# Altium integrated library TI Power Management Switching Regulator Charge Pump (Inductorless).IntLib: 239 symbols (part 9 of 14)
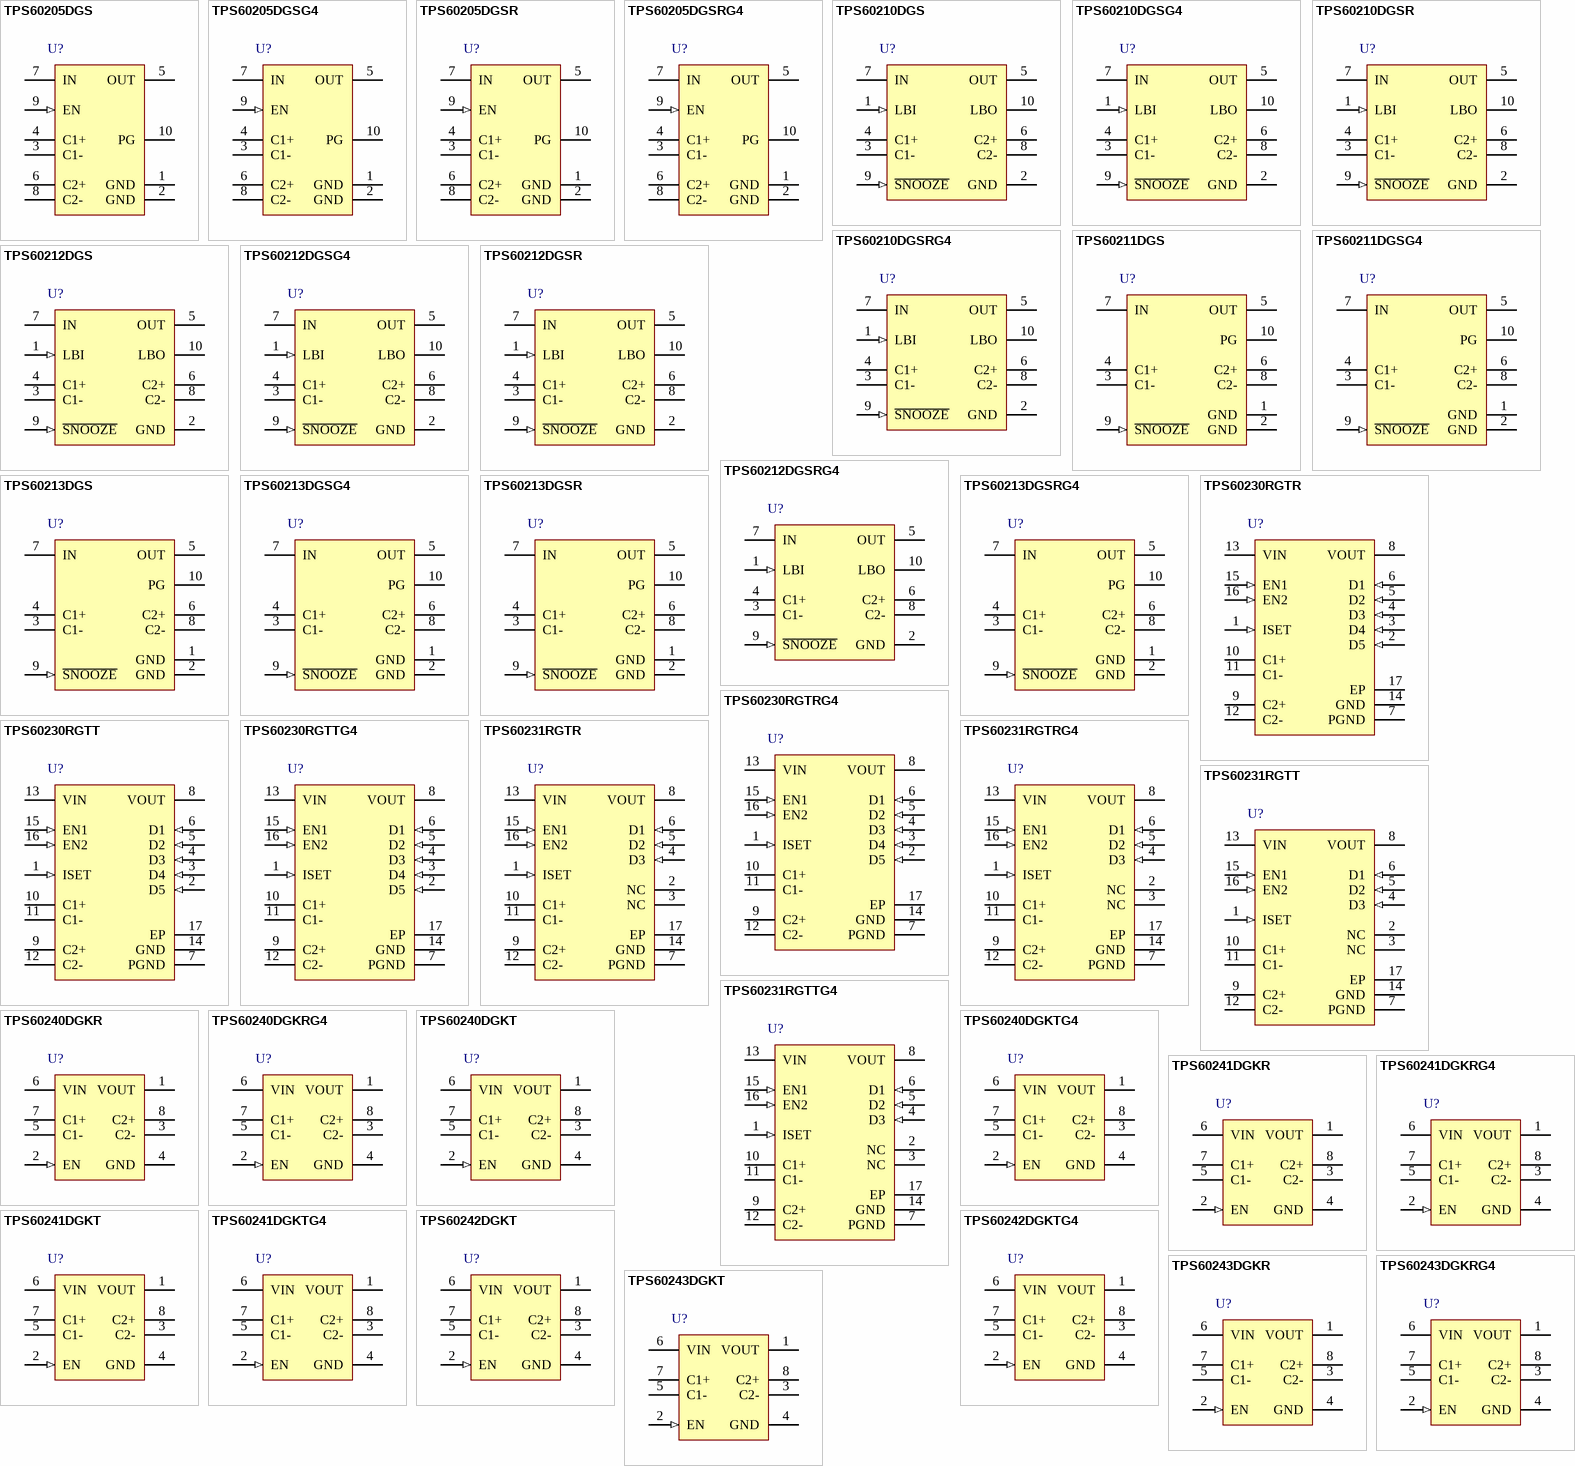
[diagram p15: symbols TPS60205DGS to TPS60243DGKT]

## TPS60205DGSG4
designator U?
3.3 V, Boost Charge Pump, 100 mA, 1.6 to 3.6 V Input with 2-Cell Alkaline / Nixx Input, -40 to 85 degC, 10-pin SOP (DGS10), Green (RoHS & no Sb/Br); Manufacturer: Texas Instruments; PartNumber: TPS60205DGSG4; 2-Cell Alkaline/Nixx Input: TRUE; Efficiency(Typ)(%): 90; Iout(Max)(A): 0.1; Iq(Typ)(mA): 0.035; Preset Vout(V): 3.3; Switching Frequency(Max)(kHz): 400; Vin(Max)(V): 3.6; Vin(Min)(V): 1.6; Vout(Max)(V): 3.43; Vout(Min)(V): 3.17; DatasheetVersion: SLVS354A; PackageVersion: 4073225-6/I; PackageReference: DGS10; PackageDescription: 10-Pin Plastic Small Outline, Body 3.00 x 3.00 mm, Pitch 0.50 mm; Supplier 1: Digi-Key; Supplier Part Number 1: TPS60205DGSG4-ND; Supplier 2: Mouser; Supplier Part Number 2: 595-TPS60205DGSG4; Eco-Plan: Green (RoHS & no Sb/Br); Topology: Boost; Mounting Technology: Surface Mount; Code_JEDEC: MO-153; ComponentLink1Description: Manufacturer URL; ComponentLink1URL: http://www.ti.com/; ComponentLink2Description: Datasheet; ComponentLink2URL: http://www.ti.com/general/docs/lit/getliterature.tsp?genericPartNumber=TPS60205&fileType=pdf; ComponentLink3Description: Package Specification; ComponentLink3URL: http://www.ti.com/litv/pdf/mpds373
footprint TI-DGS10_N (SOP, 10-Leads, Body 3x3mm, Pitch 0.5mm, IPC Medium Density)
footprint TI-DGS10_L (SOP, 10-Leads, Body 3x3mm, Pitch 0.5mm, IPC High Density)
footprint TI-DGS10_M (SOP, 10-Leads, Body 3x3mm, Pitch 0.5mm, IPC Low Density)
pins: 1 GND (power) "This pin has to be connected to ground (GND pin).", 2 GND (power) "Ground.", 3 C1- "Negative terminal of the flying capacitor C1", 4 C1+ "Positive terminal of the flying capacitor C1", 5 OUT (power) "Regulated 3.3-V power output. Bypass OUT to GND with the output filter capacitor Co.", 6 C2+ "Positive terminal of the flying capacitor C2", 7 IN (power) "Supply input. Bypass IN to GND with a capacitor of the same size as Co.", 8 C2- "Negative terminal of the flying capacitor C2", 9 EN (in) "Device-enable input. Three operating modes can be programmed with the EN pin.", 10 PG (hiz) "Open-drain power-good detector output for the TPS60205. As soon as the voltage on OUT reaches about 90% of it is nominal value this pin goes active high. A pullup resistor should be connected between PG and OUT or any other (See Datasheet)"

## TPS60205DGSR
designator U?
3.3 V, Boost Charge Pump, 100 mA, 1.6 to 3.6 V Input with 2-Cell Alkaline / Nixx Input, -40 to 85 degC, 10-pin SOP (DGS10), Green (RoHS & no Sb/Br); Manufacturer: Texas Instruments; PartNumber: TPS60205DGSR; 2-Cell Alkaline/Nixx Input: TRUE; Efficiency(Typ)(%): 90; Iout(Max)(A): 0.1; Iq(Typ)(mA): 0.035; Preset Vout(V): 3.3; Switching Frequency(Max)(kHz): 400; Vin(Max)(V): 3.6; Vin(Min)(V): 1.6; Vout(Max)(V): 3.43; Vout(Min)(V): 3.17; DatasheetVersion: SLVS354A; PackageVersion: 4073225-6/I; PackageReference: DGS10; PackageDescription: 10-Pin Plastic Small Outline, Body 3.00 x 3.00 mm, Pitch 0.50 mm; Supplier 1: Digi-Key; Supplier Part Number 1: 296-12366-2-ND; Supplier 2: Digi-Key; Supplier Part Number 2: 296-12366-1-ND; Supplier 3: Digi-Key; Supplier Part Number 3: 296-12366-6-ND; Supplier 4: Mouser; Supplier Part Number 4: 595-TPS60205DGSR; Eco-Plan: Green (RoHS & no Sb/Br); Topology: Boost; Mounting Technology: Surface Mount; Code_JEDEC: MO-153; ComponentLink1Description: Manufacturer URL; ComponentLink1URL: http://www.ti.com/; ComponentLink2Description: Datasheet; ComponentLink2URL: http://www.ti.com/general/docs/lit/getliterature.tsp?genericPartNumber=TPS60205&fileType=pdf; ComponentLink3Description: Package Specification; ComponentLink3URL: http://www.ti.com/litv/pdf/mpds373
footprint TI-DGS10_N (SOP, 10-Leads, Body 3x3mm, Pitch 0.5mm, IPC Medium Density)
footprint TI-DGS10_L (SOP, 10-Leads, Body 3x3mm, Pitch 0.5mm, IPC High Density)
footprint TI-DGS10_M (SOP, 10-Leads, Body 3x3mm, Pitch 0.5mm, IPC Low Density)
pins: 1 GND (power) "This pin has to be connected to ground (GND pin).", 2 GND (power) "Ground.", 3 C1- "Negative terminal of the flying capacitor C1", 4 C1+ "Positive terminal of the flying capacitor C1", 5 OUT (power) "Regulated 3.3-V power output. Bypass OUT to GND with the output filter capacitor Co.", 6 C2+ "Positive terminal of the flying capacitor C2", 7 IN (power) "Supply input. Bypass IN to GND with a capacitor of the same size as Co.", 8 C2- "Negative terminal of the flying capacitor C2", 9 EN (in) "Device-enable input. Three operating modes can be programmed with the EN pin.", 10 PG (hiz) "Open-drain power-good detector output for the TPS60205. As soon as the voltage on OUT reaches about 90% of it is nominal value this pin goes active high. A pullup resistor should be connected between PG and OUT or any other (See Datasheet)"

## TPS60205DGSRG4
designator U?
3.3 V, Boost Charge Pump, 100 mA, 1.6 to 3.6 V Input with 2-Cell Alkaline / Nixx Input, -40 to 85 degC, 10-pin SOP (DGS10), Green (RoHS & no Sb/Br); Manufacturer: Texas Instruments; PartNumber: TPS60205DGSRG4; 2-Cell Alkaline/Nixx Input: TRUE; Efficiency(Typ)(%): 90; Iout(Max)(A): 0.1; Iq(Typ)(mA): 0.035; Preset Vout(V): 3.3; Switching Frequency(Max)(kHz): 400; Vin(Max)(V): 3.6; Vin(Min)(V): 1.6; Vout(Max)(V): 3.43; Vout(Min)(V): 3.17; DatasheetVersion: SLVS354A; PackageVersion: 4073225-6/I; PackageReference: DGS10; PackageDescription: 10-Pin Plastic Small Outline, Body 3.00 x 3.00 mm, Pitch 0.50 mm; Supplier 1: Digi-Key; Supplier Part Number 1: TPS60205DGSRG4-ND; Supplier 2: Mouser; Supplier Part Number 2: 595-TPS60205DGSRG4; Eco-Plan: Green (RoHS & no Sb/Br); Topology: Boost; Mounting Technology: Surface Mount; Code_JEDEC: MO-153; ComponentLink1Description: Manufacturer URL; ComponentLink1URL: http://www.ti.com/; ComponentLink2Description: Datasheet; ComponentLink2URL: http://www.ti.com/general/docs/lit/getliterature.tsp?genericPartNumber=TPS60205&fileType=pdf; ComponentLink3Description: Package Specification; ComponentLink3URL: http://www.ti.com/litv/pdf/mpds373
footprint TI-DGS10_N (SOP, 10-Leads, Body 3x3mm, Pitch 0.5mm, IPC Medium Density)
footprint TI-DGS10_L (SOP, 10-Leads, Body 3x3mm, Pitch 0.5mm, IPC High Density)
footprint TI-DGS10_M (SOP, 10-Leads, Body 3x3mm, Pitch 0.5mm, IPC Low Density)
pins: 1 GND (power) "This pin has to be connected to ground (GND pin).", 2 GND (power) "Ground.", 3 C1- "Negative terminal of the flying capacitor C1", 4 C1+ "Positive terminal of the flying capacitor C1", 5 OUT (power) "Regulated 3.3-V power output. Bypass OUT to GND with the output filter capacitor Co.", 6 C2+ "Positive terminal of the flying capacitor C2", 7 IN (power) "Supply input. Bypass IN to GND with a capacitor of the same size as Co.", 8 C2- "Negative terminal of the flying capacitor C2", 9 EN (in) "Device-enable input. Three operating modes can be programmed with the EN pin.", 10 PG (hiz) "Open-drain power-good detector output for the TPS60205. As soon as the voltage on OUT reaches about 90% of it is nominal value this pin goes active high. A pullup resistor should be connected between PG and OUT or any other (See Datasheet)"

## TPS60210DGS
designator U?
3.3 V, Step-Up Charge Pump Regulator, 100 mA, 1.6 to 3.6 V Input with 2-Cell Alkaline / Nixx Input, -40 to 85 degC, 10-pin SOP (DGS10), Green (RoHS & no Sb/Br); Manufacturer: Texas Instruments; PartNumber: TPS60210DGS; 2-Cell Alkaline/Nixx Input: TRUE; Iout(Max)(A): 0.1; Iq(Typ)(mA): 0.035; Preset Vout(V): 3.3; Switching Frequency(Max)(kHz): 400; Topology: Boost; Vin(Max)(V): 3.6; Vin(Min)(V): 1.8; Vout(Max)(V): 3.47; Vout(Min)(V): 3.17; DatasheetVersion: SLVS296; PackageVersion: 4073225-6/I; PackageReference: DGS10; PackageDescription: 10-Pin Plastic Small Outline, Body 3.00 x 3.00 mm, Pitch 0.50 mm; Supplier 1: Digi-Key; Supplier Part Number 1: 296-10959-5-ND; Supplier 2: Farnell; Supplier Part Number 2: 8457670; Supplier 3: Newark; Supplier Part Number 3: 77C0590; Supplier 4: Mouser; Supplier Part Number 4: 595-TPS60210DGS; Eco-Plan: Green (RoHS & no Sb/Br); Mounting Technology: Surface Mount; Code_JEDEC: MO-153; ComponentLink1Description: Manufacturer URL; ComponentLink1URL: http://www.ti.com/; ComponentLink2Description: Datasheet; ComponentLink2URL: http://www.ti.com/general/docs/lit/getliterature.tsp?genericPartNumber=TPS60210&fileType=pdf; ComponentLink3Description: Package Specification; ComponentLink3URL: http://www.ti.com/litv/pdf/mpds373
footprint TI-DGS10_N (SOP, 10-Leads, Body 3x3mm, Pitch 0.5mm, IPC Medium Density)
footprint TI-DGS10_L (SOP, 10-Leads, Body 3x3mm, Pitch 0.5mm, IPC High Density)
footprint TI-DGS10_M (SOP, 10-Leads, Body 3x3mm, Pitch 0.5mm, IPC Low Density)
pins: 1 LBI (in) "Low-battery detector input for TPS60210 and TPS60212. A low-battery warning is generated at the LBO pin when the voltage on LBI drops below the threshold of 1.18 V. Connect LBI to GND or VBAT if the low-battery detector (See Datasheet)", 2 GND (power) "Ground", 3 C1- "Negative terminal of the flying capacitor C1", 4 C1+ "Positive terminal of the flying capacitor C1", 5 OUT (power) "Regulated 3.3-V power output. Bypass OUT to GND with the output filter capacitor Co.", 6 C2+ "Positive terminal of the flying capacitor C2", 7 IN (power) "Supply input. Bypass IN to GND with a capacitor of a minimum of 2.2 µF.", 8 C2- "Negative terminal of the flying capacitor C2", 9 ~{SNOOZE} (in) "Three operating modes can be programmed with the S\N\O\O\Z\E\ pin. - S\N\O\O\Z\E\ = Low programs the device in the snooze mode, enabling ultralow operating current while still maintaining the output voltage to within 3.3 V (See Datasheet)", 10 LBO (hiz) "Open-drain low-battery detector output for TPS60210 and TPS60212. This pin is pulled low if the voltage on LBI drops below the threshold of 1.18 V. A pullup resistor should be connected between LBO and OUT or any other logic (See Datasheet)"

## TPS60210DGSG4
designator U?
3.3 V, Step-Up Charge Pump Regulator, 100 mA, 1.6 to 3.6 V Input with 2-Cell Alkaline / Nixx Input, -40 to 85 degC, 10-pin SOP (DGS10), Green (RoHS & no Sb/Br); Manufacturer: Texas Instruments; PartNumber: TPS60210DGSG4; 2-Cell Alkaline/Nixx Input: TRUE; Iout(Max)(A): 0.1; Iq(Typ)(mA): 0.035; Preset Vout(V): 3.3; Switching Frequency(Max)(kHz): 400; Topology: Boost; Vin(Max)(V): 3.6; Vin(Min)(V): 1.8; Vout(Max)(V): 3.47; Vout(Min)(V): 3.17; DatasheetVersion: SLVS296; PackageVersion: 4073225-6/I; PackageReference: DGS10; PackageDescription: 10-Pin Plastic Small Outline, Body 3.00 x 3.00 mm, Pitch 0.50 mm; Supplier 1: Digi-Key; Supplier Part Number 1: TPS60210DGSG4-ND; Supplier 2: Newark; Supplier Part Number 2: 04M0260; Supplier 3: Mouser; Supplier Part Number 3: 595-TPS60210DGSG4; Eco-Plan: Green (RoHS & no Sb/Br); Mounting Technology: Surface Mount; Code_JEDEC: MO-153; ComponentLink1Description: Manufacturer URL; ComponentLink1URL: http://www.ti.com/; ComponentLink2Description: Datasheet; ComponentLink2URL: http://www.ti.com/general/docs/lit/getliterature.tsp?genericPartNumber=TPS60210&fileType=pdf; ComponentLink3Description: Package Specification; ComponentLink3URL: http://www.ti.com/litv/pdf/mpds373
footprint TI-DGS10_N (SOP, 10-Leads, Body 3x3mm, Pitch 0.5mm, IPC Medium Density)
footprint TI-DGS10_L (SOP, 10-Leads, Body 3x3mm, Pitch 0.5mm, IPC High Density)
footprint TI-DGS10_M (SOP, 10-Leads, Body 3x3mm, Pitch 0.5mm, IPC Low Density)
pins: 1 LBI (in) "Low-battery detector input for TPS60210 and TPS60212. A low-battery warning is generated at the LBO pin when the voltage on LBI drops below the threshold of 1.18 V. Connect LBI to GND or VBAT if the low-battery detector (See Datasheet)", 2 GND (power) "Ground", 3 C1- "Negative terminal of the flying capacitor C1", 4 C1+ "Positive terminal of the flying capacitor C1", 5 OUT (power) "Regulated 3.3-V power output. Bypass OUT to GND with the output filter capacitor Co.", 6 C2+ "Positive terminal of the flying capacitor C2", 7 IN (power) "Supply input. Bypass IN to GND with a capacitor of a minimum of 2.2 µF.", 8 C2- "Negative terminal of the flying capacitor C2", 9 ~{SNOOZE} (in) "Three operating modes can be programmed with the S\N\O\O\Z\E\ pin. - S\N\O\O\Z\E\ = Low programs the device in the snooze mode, enabling ultralow operating current while still maintaining the output voltage to within 3.3 V (See Datasheet)", 10 LBO (hiz) "Open-drain low-battery detector output for TPS60210 and TPS60212. This pin is pulled low if the voltage on LBI drops below the threshold of 1.18 V. A pullup resistor should be connected between LBO and OUT or any other logic (See Datasheet)"

## TPS60210DGSR
designator U?
3.3 V, Step-Up Charge Pump Regulator, 100 mA, 1.6 to 3.6 V Input with 2-Cell Alkaline / Nixx Input, -40 to 85 degC, 10-pin SOP (DGS10), Green (RoHS & no Sb/Br); Manufacturer: Texas Instruments; PartNumber: TPS60210DGSR; 2-Cell Alkaline/Nixx Input: TRUE; Iout(Max)(A): 0.1; Iq(Typ)(mA): 0.035; Preset Vout(V): 3.3; Switching Frequency(Max)(kHz): 400; Topology: Boost; Vin(Max)(V): 3.6; Vin(Min)(V): 1.8; Vout(Max)(V): 3.47; Vout(Min)(V): 3.17; DatasheetVersion: SLVS296; PackageVersion: 4073225-6/I; PackageReference: DGS10; PackageDescription: 10-Pin Plastic Small Outline, Body 3.00 x 3.00 mm, Pitch 0.50 mm; Supplier 1: Digi-Key; Supplier Part Number 1: TPS60210DGSR-ND; Supplier 2: Newark; Supplier Part Number 2: 77C0591; Supplier 3: Mouser; Supplier Part Number 3: 595-TPS60210DGSR; Eco-Plan: Green (RoHS & no Sb/Br); Mounting Technology: Surface Mount; Code_JEDEC: MO-153; ComponentLink1Description: Manufacturer URL; ComponentLink1URL: http://www.ti.com/; ComponentLink2Description: Datasheet; ComponentLink2URL: http://www.ti.com/general/docs/lit/getliterature.tsp?genericPartNumber=TPS60210&fileType=pdf; ComponentLink3Description: Package Specification; ComponentLink3URL: http://www.ti.com/litv/pdf/mpds373
footprint TI-DGS10_N (SOP, 10-Leads, Body 3x3mm, Pitch 0.5mm, IPC Medium Density)
footprint TI-DGS10_L (SOP, 10-Leads, Body 3x3mm, Pitch 0.5mm, IPC High Density)
footprint TI-DGS10_M (SOP, 10-Leads, Body 3x3mm, Pitch 0.5mm, IPC Low Density)
pins: 1 LBI (in) "Low-battery detector input for TPS60210 and TPS60212. A low-battery warning is generated at the LBO pin when the voltage on LBI drops below the threshold of 1.18 V. Connect LBI to GND or VBAT if the low-battery detector (See Datasheet)", 2 GND (power) "Ground", 3 C1- "Negative terminal of the flying capacitor C1", 4 C1+ "Positive terminal of the flying capacitor C1", 5 OUT (power) "Regulated 3.3-V power output. Bypass OUT to GND with the output filter capacitor Co.", 6 C2+ "Positive terminal of the flying capacitor C2", 7 IN (power) "Supply input. Bypass IN to GND with a capacitor of a minimum of 2.2 µF.", 8 C2- "Negative terminal of the flying capacitor C2", 9 ~{SNOOZE} (in) "Three operating modes can be programmed with the S\N\O\O\Z\E\ pin. - S\N\O\O\Z\E\ = Low programs the device in the snooze mode, enabling ultralow operating current while still maintaining the output voltage to within 3.3 V (See Datasheet)", 10 LBO (hiz) "Open-drain low-battery detector output for TPS60210 and TPS60212. This pin is pulled low if the voltage on LBI drops below the threshold of 1.18 V. A pullup resistor should be connected between LBO and OUT or any other logic (See Datasheet)"

## TPS60210DGSRG4
designator U?
3.3 V, Step-Up Charge Pump Regulator, 100 mA, 1.6 to 3.6 V Input with 2-Cell Alkaline / Nixx Input, -40 to 85 degC, 10-pin SOP (DGS10), Green (RoHS & no Sb/Br); Manufacturer: Texas Instruments; PartNumber: TPS60210DGSRG4; 2-Cell Alkaline/Nixx Input: TRUE; Iout(Max)(A): 0.1; Iq(Typ)(mA): 0.035; Preset Vout(V): 3.3; Switching Frequency(Max)(kHz): 400; Topology: Boost; Vin(Max)(V): 3.6; Vin(Min)(V): 1.8; Vout(Max)(V): 3.47; Vout(Min)(V): 3.17; DatasheetVersion: SLVS296; PackageVersion: 4073225-6/I; PackageReference: DGS10; PackageDescription: 10-Pin Plastic Small Outline, Body 3.00 x 3.00 mm, Pitch 0.50 mm; Supplier 1: Digi-Key; Supplier Part Number 1: TPS60210DGSRG4-ND; Supplier 2: Mouser; Supplier Part Number 2: 595-TPS60210DGSRG4; Eco-Plan: Green (RoHS & no Sb/Br); Mounting Technology: Surface Mount; Code_JEDEC: MO-153; ComponentLink1Description: Manufacturer URL; ComponentLink1URL: http://www.ti.com/; ComponentLink2Description: Datasheet; ComponentLink2URL: http://www.ti.com/general/docs/lit/getliterature.tsp?genericPartNumber=TPS60210&fileType=pdf; ComponentLink3Description: Package Specification; ComponentLink3URL: http://www.ti.com/litv/pdf/mpds373
footprint TI-DGS10_N (SOP, 10-Leads, Body 3x3mm, Pitch 0.5mm, IPC Medium Density)
footprint TI-DGS10_L (SOP, 10-Leads, Body 3x3mm, Pitch 0.5mm, IPC High Density)
footprint TI-DGS10_M (SOP, 10-Leads, Body 3x3mm, Pitch 0.5mm, IPC Low Density)
pins: 1 LBI (in) "Low-battery detector input for TPS60210 and TPS60212. A low-battery warning is generated at the LBO pin when the voltage on LBI drops below the threshold of 1.18 V. Connect LBI to GND or VBAT if the low-battery detector (See Datasheet)", 2 GND (power) "Ground", 3 C1- "Negative terminal of the flying capacitor C1", 4 C1+ "Positive terminal of the flying capacitor C1", 5 OUT (power) "Regulated 3.3-V power output. Bypass OUT to GND with the output filter capacitor Co.", 6 C2+ "Positive terminal of the flying capacitor C2", 7 IN (power) "Supply input. Bypass IN to GND with a capacitor of a minimum of 2.2 µF.", 8 C2- "Negative terminal of the flying capacitor C2", 9 ~{SNOOZE} (in) "Three operating modes can be programmed with the S\N\O\O\Z\E\ pin. - S\N\O\O\Z\E\ = Low programs the device in the snooze mode, enabling ultralow operating current while still maintaining the output voltage to within 3.3 V (See Datasheet)", 10 LBO (hiz) "Open-drain low-battery detector output for TPS60210 and TPS60212. This pin is pulled low if the voltage on LBI drops below the threshold of 1.18 V. A pullup resistor should be connected between LBO and OUT or any other logic (See Datasheet)"

## TPS60211DGS
designator U?
3.3 V, Step-Up Charge Pump Regulator, 100 mA, 1.6 to 3.6 V Input with 2-Cell Alkaline / Nixx Input, -40 to 85 degC, 10-pin SOP (DGS10), Green (RoHS & no Sb/Br); Manufacturer: Texas Instruments; PartNumber: TPS60211DGS; 2-Cell Alkaline/Nixx Input: TRUE; Efficiency(Typ)(%): 70; Iout(Max)(A): 0.1; Iq(Typ)(mA): 0.035; Preset Vout(V): 3.3; Switching Frequency(Max)(kHz): 400; Topology: Boost; Vin(Max)(V): 3.6; Vin(Min)(V): 1.8; Vout(Max)(V): 3.47; Vout(Min)(V): 3.17; DatasheetVersion: SLVS296; PackageVersion: 4073225-6/I; PackageReference: DGS10; PackageDescription: 10-Pin Plastic Small Outline, Body 3.00 x 3.00 mm, Pitch 0.50 mm; Supplier 1: Digi-Key; Supplier Part Number 1: 296-10961-5-ND; Supplier 2: Newark; Supplier Part Number 2: 77C0593; Supplier 3: Mouser; Supplier Part Number 3: 595-TPS60211DGS; Eco-Plan: Green (RoHS & no Sb/Br); Mounting Technology: Surface Mount; Code_JEDEC: MO-153; ComponentLink1Description: Manufacturer URL; ComponentLink1URL: http://www.ti.com/; ComponentLink2Description: Datasheet; ComponentLink2URL: http://www.ti.com/general/docs/lit/getliterature.tsp?genericPartNumber=TPS60211&fileType=pdf; ComponentLink3Description: Package Specification; ComponentLink3URL: http://www.ti.com/litv/pdf/mpds373
footprint TI-DGS10_N (SOP, 10-Leads, Body 3x3mm, Pitch 0.5mm, IPC Medium Density)
footprint TI-DGS10_L (SOP, 10-Leads, Body 3x3mm, Pitch 0.5mm, IPC High Density)
footprint TI-DGS10_M (SOP, 10-Leads, Body 3x3mm, Pitch 0.5mm, IPC Low Density)
pins: 1 GND (power) "Ground", 2 GND (power) "Ground", 3 C1- "Negative terminal of the flying capacitor C1", 4 C1+ "Positive terminal of the flying capacitor C1", 5 OUT (power) "Regulated 3.3-V power output. Bypass OUT to GND with the output filter capacitor Co", 6 C2+ "Positive terminal of the flying capacitor C2", 7 IN (power) "Supply input. Bypass IN to GND with a capacitor of a minimum of 2.2 µF", 8 C2- "Negative terminal of the flying capacitor C2", 9 ~{SNOOZE} (in) "Three operating modes can be programmed with the S\N\O\O\Z\E\ pin. - S\N\O\O\Z\E\ = Low programs the device in the snooze mode, enabling ultralow operating current while still maintaining the output voltage to within 3.3 V (See Datasheet)", 10 PG (hiz) "Open-drain power-good detector output for TPS60211 and TPS60213. As soon as the voltage on OUT reaches about 90% of its nominal value, this pin goes active high. A pullup resistor should be connected between PG and OUT or (See Datasheet)"

## TPS60211DGSG4
designator U?
3.3 V, Step-Up Charge Pump Regulator, 100 mA, 1.6 to 3.6 V Input with 2-Cell Alkaline / Nixx Input, -40 to 85 degC, 10-pin SOP (DGS10), Green (RoHS & no Sb/Br); Manufacturer: Texas Instruments; PartNumber: TPS60211DGSG4; 2-Cell Alkaline/Nixx Input: TRUE; Efficiency(Typ)(%): 70; Iout(Max)(A): 0.1; Iq(Typ)(mA): 0.035; Preset Vout(V): 3.3; Switching Frequency(Max)(kHz): 400; Topology: Boost; Vin(Max)(V): 3.6; Vin(Min)(V): 1.8; Vout(Max)(V): 3.47; Vout(Min)(V): 3.17; DatasheetVersion: SLVS296; PackageVersion: 4073225-6/I; PackageReference: DGS10; PackageDescription: 10-Pin Plastic Small Outline, Body 3.00 x 3.00 mm, Pitch 0.50 mm; Supplier 1: Digi-Key; Supplier Part Number 1: TPS60211DGSG4-ND; Supplier 2: Mouser; Supplier Part Number 2: 595-TPS60211DGSG4; Eco-Plan: Green (RoHS & no Sb/Br); Mounting Technology: Surface Mount; Code_JEDEC: MO-153; ComponentLink1Description: Manufacturer URL; ComponentLink1URL: http://www.ti.com/; ComponentLink2Description: Datasheet; ComponentLink2URL: http://www.ti.com/general/docs/lit/getliterature.tsp?genericPartNumber=TPS60211&fileType=pdf; ComponentLink3Description: Package Specification; ComponentLink3URL: http://www.ti.com/litv/pdf/mpds373
footprint TI-DGS10_N (SOP, 10-Leads, Body 3x3mm, Pitch 0.5mm, IPC Medium Density)
footprint TI-DGS10_L (SOP, 10-Leads, Body 3x3mm, Pitch 0.5mm, IPC High Density)
footprint TI-DGS10_M (SOP, 10-Leads, Body 3x3mm, Pitch 0.5mm, IPC Low Density)
pins: 1 GND (power) "Ground", 2 GND (power) "Ground", 3 C1- "Negative terminal of the flying capacitor C1", 4 C1+ "Positive terminal of the flying capacitor C1", 5 OUT (power) "Regulated 3.3-V power output. Bypass OUT to GND with the output filter capacitor Co", 6 C2+ "Positive terminal of the flying capacitor C2", 7 IN (power) "Supply input. Bypass IN to GND with a capacitor of a minimum of 2.2 µF", 8 C2- "Negative terminal of the flying capacitor C2", 9 ~{SNOOZE} (in) "Three operating modes can be programmed with the S\N\O\O\Z\E\ pin. - S\N\O\O\Z\E\ = Low programs the device in the snooze mode, enabling ultralow operating current while still maintaining the output voltage to within 3.3 V (See Datasheet)", 10 PG (hiz) "Open-drain power-good detector output for TPS60211 and TPS60213. As soon as the voltage on OUT reaches about 90% of its nominal value, this pin goes active high. A pullup resistor should be connected between PG and OUT or (See Datasheet)"

## TPS60212DGS
designator U?
3.3 V, Step-Up Charge Pump Regulator, 50 mA, 1.6 to 3.6 V Input with 2-Cell Alkaline / Nixx Input, -40 to 85 degC, 10-pin SOP (DGS10), Green (RoHS & no Sb/Br); Manufacturer: Texas Instruments; PartNumber: TPS60212DGS; 2-Cell Alkaline/Nixx Input: TRUE; Iout(Max)(A): 0.05; Iq(Typ)(mA): 0.035; Preset Vout(V): 3.3; Switching Frequency(Max)(kHz): 400; Topology: Boost; Vin(Max)(V): 3.6; Vin(Min)(V): 1.8; Vout(Max)(V): 3.47; Vout(Min)(V): 3.17; DatasheetVersion: SLVS296; PackageVersion: 4073225-6/I; PackageReference: DGS10; PackageDescription: 10-Pin Plastic Small Outline, Body 3.00 x 3.00 mm, Pitch 0.50 mm; Supplier 1: Digi-Key; Supplier Part Number 1: 296-10962-5-ND; Supplier 2: Newark; Supplier Part Number 2: 77C0595; Supplier 3: Mouser; Supplier Part Number 3: 595-TPS60212DGS; Eco-Plan: Green (RoHS & no Sb/Br); Mounting Technology: Surface Mount; Code_JEDEC: MO-153; ComponentLink1Description: Manufacturer URL; ComponentLink1URL: http://www.ti.com/; ComponentLink2Description: Datasheet; ComponentLink2URL: http://www.ti.com/general/docs/lit/getliterature.tsp?genericPartNumber=TPS60212&fileType=pdf; ComponentLink3Description: Package Specification; ComponentLink3URL: http://www.ti.com/litv/pdf/mpds373
footprint TI-DGS10_N (SOP, 10-Leads, Body 3x3mm, Pitch 0.5mm, IPC Medium Density)
footprint TI-DGS10_L (SOP, 10-Leads, Body 3x3mm, Pitch 0.5mm, IPC High Density)
footprint TI-DGS10_M (SOP, 10-Leads, Body 3x3mm, Pitch 0.5mm, IPC Low Density)
pins: 1 LBI (in) "Low-battery detector input for TPS60210 and TPS60212. A low-battery warning is generated at the LBO pin when the voltage on LBI drops below the threshold of 1.18 V. Connect LBI to GND or VBAT if the low-battery detector (See Datasheet)", 2 GND (power) "Ground", 3 C1- "Negative terminal of the flying capacitor C1", 4 C1+ "Positive terminal of the flying capacitor C1", 5 OUT (power) "Regulated 3.3-V power output. Bypass OUT to GND with the output filter capacitor Co.", 6 C2+ "Positive terminal of the flying capacitor C2", 7 IN (power) "Supply input. Bypass IN to GND with a capacitor of a minimum of 2.2 µF.", 8 C2- "Negative terminal of the flying capacitor C2", 9 ~{SNOOZE} (in) "Three operating modes can be programmed with the S\N\O\O\Z\E\ pin. - S\N\O\O\Z\E\ = Low programs the device in the snooze mode, enabling ultralow operating current while still maintaining the output voltage to within 3.3 V (See Datasheet)", 10 LBO (hiz) "Open-drain low-battery detector output for TPS60210 and TPS60212. This pin is pulled low if the voltage on LBI drops below the threshold of 1.18 V. A pullup resistor should be connected between LBO and OUT or any other logic (See Datasheet)"

## TPS60212DGSG4
designator U?
3.3 V, Step-Up Charge Pump Regulator, 50 mA, 1.6 to 3.6 V Input with 2-Cell Alkaline / Nixx Input, -40 to 85 degC, 10-pin SOP (DGS10), Green (RoHS & no Sb/Br); Manufacturer: Texas Instruments; PartNumber: TPS60212DGSG4; 2-Cell Alkaline/Nixx Input: TRUE; Iout(Max)(A): 0.05; Iq(Typ)(mA): 0.035; Preset Vout(V): 3.3; Switching Frequency(Max)(kHz): 400; Topology: Boost; Vin(Max)(V): 3.6; Vin(Min)(V): 1.8; Vout(Max)(V): 3.47; Vout(Min)(V): 3.17; DatasheetVersion: SLVS296; PackageVersion: 4073225-6/I; PackageReference: DGS10; PackageDescription: 10-Pin Plastic Small Outline, Body 3.00 x 3.00 mm, Pitch 0.50 mm; Supplier 1: Digi-Key; Supplier Part Number 1: TPS60212DGSG4-ND; Supplier 2: Mouser; Supplier Part Number 2: 595-TPS60212DGSG4; Eco-Plan: Green (RoHS & no Sb/Br); Mounting Technology: Surface Mount; Code_JEDEC: MO-153; ComponentLink1Description: Manufacturer URL; ComponentLink1URL: http://www.ti.com/; ComponentLink2Description: Datasheet; ComponentLink2URL: http://www.ti.com/general/docs/lit/getliterature.tsp?genericPartNumber=TPS60212&fileType=pdf; ComponentLink3Description: Package Specification; ComponentLink3URL: http://www.ti.com/litv/pdf/mpds373
footprint TI-DGS10_N (SOP, 10-Leads, Body 3x3mm, Pitch 0.5mm, IPC Medium Density)
footprint TI-DGS10_L (SOP, 10-Leads, Body 3x3mm, Pitch 0.5mm, IPC High Density)
footprint TI-DGS10_M (SOP, 10-Leads, Body 3x3mm, Pitch 0.5mm, IPC Low Density)
pins: 1 LBI (in) "Low-battery detector input for TPS60210 and TPS60212. A low-battery warning is generated at the LBO pin when the voltage on LBI drops below the threshold of 1.18 V. Connect LBI to GND or VBAT if the low-battery detector (See Datasheet)", 2 GND (power) "Ground", 3 C1- "Negative terminal of the flying capacitor C1", 4 C1+ "Positive terminal of the flying capacitor C1", 5 OUT (power) "Regulated 3.3-V power output. Bypass OUT to GND with the output filter capacitor Co.", 6 C2+ "Positive terminal of the flying capacitor C2", 7 IN (power) "Supply input. Bypass IN to GND with a capacitor of a minimum of 2.2 µF.", 8 C2- "Negative terminal of the flying capacitor C2", 9 ~{SNOOZE} (in) "Three operating modes can be programmed with the S\N\O\O\Z\E\ pin. - S\N\O\O\Z\E\ = Low programs the device in the snooze mode, enabling ultralow operating current while still maintaining the output voltage to within 3.3 V (See Datasheet)", 10 LBO (hiz) "Open-drain low-battery detector output for TPS60210 and TPS60212. This pin is pulled low if the voltage on LBI drops below the threshold of 1.18 V. A pullup resistor should be connected between LBO and OUT or any other logic (See Datasheet)"

## TPS60212DGSR
designator U?
3.3 V, Step-Up Charge Pump Regulator, 50 mA, 1.6 to 3.6 V Input with 2-Cell Alkaline / Nixx Input, -40 to 85 degC, 10-pin SOP (DGS10), Green (RoHS & no Sb/Br); Manufacturer: Texas Instruments; PartNumber: TPS60212DGSR; 2-Cell Alkaline/Nixx Input: TRUE; Iout(Max)(A): 0.05; Iq(Typ)(mA): 0.035; Preset Vout(V): 3.3; Switching Frequency(Max)(kHz): 400; Topology: Boost; Vin(Max)(V): 3.6; Vin(Min)(V): 1.8; Vout(Max)(V): 3.47; Vout(Min)(V): 3.17; DatasheetVersion: SLVS296; PackageVersion: 4073225-6/I; PackageReference: DGS10; PackageDescription: 10-Pin Plastic Small Outline, Body 3.00 x 3.00 mm, Pitch 0.50 mm; Supplier 1: Digi-Key; Supplier Part Number 1: TPS60212DGSR-ND; Supplier 2: Newark; Supplier Part Number 2: 77C0596; Supplier 3: Mouser; Supplier Part Number 3: 595-TPS60212DGSR; Eco-Plan: Green (RoHS & no Sb/Br); Mounting Technology: Surface Mount; Code_JEDEC: MO-153; ComponentLink1Description: Manufacturer URL; ComponentLink1URL: http://www.ti.com/; ComponentLink2Description: Datasheet; ComponentLink2URL: http://www.ti.com/general/docs/lit/getliterature.tsp?genericPartNumber=TPS60212&fileType=pdf; ComponentLink3Description: Package Specification; ComponentLink3URL: http://www.ti.com/litv/pdf/mpds373
footprint TI-DGS10_N (SOP, 10-Leads, Body 3x3mm, Pitch 0.5mm, IPC Medium Density)
footprint TI-DGS10_L (SOP, 10-Leads, Body 3x3mm, Pitch 0.5mm, IPC High Density)
footprint TI-DGS10_M (SOP, 10-Leads, Body 3x3mm, Pitch 0.5mm, IPC Low Density)
pins: 1 LBI (in) "Low-battery detector input for TPS60210 and TPS60212. A low-battery warning is generated at the LBO pin when the voltage on LBI drops below the threshold of 1.18 V. Connect LBI to GND or VBAT if the low-battery detector (See Datasheet)", 2 GND (power) "Ground", 3 C1- "Negative terminal of the flying capacitor C1", 4 C1+ "Positive terminal of the flying capacitor C1", 5 OUT (power) "Regulated 3.3-V power output. Bypass OUT to GND with the output filter capacitor Co.", 6 C2+ "Positive terminal of the flying capacitor C2", 7 IN (power) "Supply input. Bypass IN to GND with a capacitor of a minimum of 2.2 µF.", 8 C2- "Negative terminal of the flying capacitor C2", 9 ~{SNOOZE} (in) "Three operating modes can be programmed with the S\N\O\O\Z\E\ pin. - S\N\O\O\Z\E\ = Low programs the device in the snooze mode, enabling ultralow operating current while still maintaining the output voltage to within 3.3 V (See Datasheet)", 10 LBO (hiz) "Open-drain low-battery detector output for TPS60210 and TPS60212. This pin is pulled low if the voltage on LBI drops below the threshold of 1.18 V. A pullup resistor should be connected between LBO and OUT or any other logic (See Datasheet)"

## TPS60212DGSRG4
designator U?
3.3 V, Step-Up Charge Pump Regulator, 50 mA, 1.6 to 3.6 V Input with 2-Cell Alkaline / Nixx Input, -40 to 85 degC, 10-pin SOP (DGS10), Green (RoHS & no Sb/Br); Manufacturer: Texas Instruments; PartNumber: TPS60212DGSRG4; 2-Cell Alkaline/Nixx Input: TRUE; Iout(Max)(A): 0.05; Iq(Typ)(mA): 0.035; Preset Vout(V): 3.3; Switching Frequency(Max)(kHz): 400; Topology: Boost; Vin(Max)(V): 3.6; Vin(Min)(V): 1.8; Vout(Max)(V): 3.47; Vout(Min)(V): 3.17; DatasheetVersion: SLVS296; PackageVersion: 4073225-6/I; PackageReference: DGS10; PackageDescription: 10-Pin Plastic Small Outline, Body 3.00 x 3.00 mm, Pitch 0.50 mm; Supplier 1: Digi-Key; Supplier Part Number 1: TPS60212DGSRG4-ND; Supplier 2: Mouser; Supplier Part Number 2: 595-TPS60212DGSRG4; Eco-Plan: Green (RoHS & no Sb/Br); Mounting Technology: Surface Mount; Code_JEDEC: MO-153; ComponentLink1Description: Manufacturer URL; ComponentLink1URL: http://www.ti.com/; ComponentLink2Description: Datasheet; ComponentLink2URL: http://www.ti.com/general/docs/lit/getliterature.tsp?genericPartNumber=TPS60212&fileType=pdf; ComponentLink3Description: Package Specification; ComponentLink3URL: http://www.ti.com/litv/pdf/mpds373
footprint TI-DGS10_N (SOP, 10-Leads, Body 3x3mm, Pitch 0.5mm, IPC Medium Density)
footprint TI-DGS10_L (SOP, 10-Leads, Body 3x3mm, Pitch 0.5mm, IPC High Density)
footprint TI-DGS10_M (SOP, 10-Leads, Body 3x3mm, Pitch 0.5mm, IPC Low Density)
pins: 1 LBI (in) "Low-battery detector input for TPS60210 and TPS60212. A low-battery warning is generated at the LBO pin when the voltage on LBI drops below the threshold of 1.18 V. Connect LBI to GND or VBAT if the low-battery detector (See Datasheet)", 2 GND (power) "Ground", 3 C1- "Negative terminal of the flying capacitor C1", 4 C1+ "Positive terminal of the flying capacitor C1", 5 OUT (power) "Regulated 3.3-V power output. Bypass OUT to GND with the output filter capacitor Co.", 6 C2+ "Positive terminal of the flying capacitor C2", 7 IN (power) "Supply input. Bypass IN to GND with a capacitor of a minimum of 2.2 µF.", 8 C2- "Negative terminal of the flying capacitor C2", 9 ~{SNOOZE} (in) "Three operating modes can be programmed with the S\N\O\O\Z\E\ pin. - S\N\O\O\Z\E\ = Low programs the device in the snooze mode, enabling ultralow operating current while still maintaining the output voltage to within 3.3 V (See Datasheet)", 10 LBO (hiz) "Open-drain low-battery detector output for TPS60210 and TPS60212. This pin is pulled low if the voltage on LBI drops below the threshold of 1.18 V. A pullup resistor should be connected between LBO and OUT or any other logic (See Datasheet)"

## TPS60213DGS
designator U?
3.3 V, Step-Up Charge Pump Regulator, 50 mA, 1.6 to 3.6 V Input with 2-Cell Alkaline / Nixx Input, -40 to 85 degC, 10-pin SOP (DGS10), Green (RoHS & no Sb/Br); Manufacturer: Texas Instruments; PartNumber: TPS60213DGS; 2-Cell Alkaline/Nixx Input: TRUE; Iout(Max)(A): 0.05; Iq(Typ)(mA): 0.035; Preset Vout(V): 3.3; Switching Frequency(Max)(kHz): 400; Topology: Boost; Vin(Max)(V): 3.6; Vin(Min)(V): 1.8; Vout(Max)(V): 3.47; Vout(Min)(V): 3.17; DatasheetVersion: SLVS296; PackageVersion: 4073225-6/I; PackageReference: DGS10; PackageDescription: 10-Pin Plastic Small Outline, Body 3.00 x 3.00 mm, Pitch 0.50 mm; Supplier 1: Digi-Key; Supplier Part Number 1: 296-10963-5-ND; Supplier 2: Newark; Supplier Part Number 2: 77C0597; Supplier 3: Mouser; Supplier Part Number 3: 595-TPS60213DGS; Eco-Plan: Green (RoHS & no Sb/Br); Mounting Technology: Surface Mount; Code_JEDEC: MO-153; ComponentLink1Description: Manufacturer URL; ComponentLink1URL: http://www.ti.com/; ComponentLink2Description: Datasheet; ComponentLink2URL: http://www.ti.com/general/docs/lit/getliterature.tsp?genericPartNumber=TPS60213&fileType=pdf; ComponentLink3Description: Package Specification; ComponentLink3URL: http://www.ti.com/litv/pdf/mpds373
footprint TI-DGS10_N (SOP, 10-Leads, Body 3x3mm, Pitch 0.5mm, IPC Medium Density)
footprint TI-DGS10_L (SOP, 10-Leads, Body 3x3mm, Pitch 0.5mm, IPC High Density)
footprint TI-DGS10_M (SOP, 10-Leads, Body 3x3mm, Pitch 0.5mm, IPC Low Density)
pins: 1 GND (power) "Ground", 2 GND (power) "Ground", 3 C1- "Negative terminal of the flying capacitor C1", 4 C1+ "Positive terminal of the flying capacitor C1", 5 OUT (power) "Regulated 3.3-V power output. Bypass OUT to GND with the output filter capacitor Co", 6 C2+ "Positive terminal of the flying capacitor C2", 7 IN (power) "Supply input. Bypass IN to GND with a capacitor of a minimum of 2.2 µF", 8 C2- "Negative terminal of the flying capacitor C2", 9 ~{SNOOZE} (in) "Three operating modes can be programmed with the S\N\O\O\Z\E\ pin. - S\N\O\O\Z\E\ = Low programs the device in the snooze mode, enabling ultralow operating current while still maintaining the output voltage to within 3.3 V (See Datasheet)", 10 PG (hiz) "Open-drain power-good detector output for TPS60211 and TPS60213. As soon as the voltage on OUT reaches about 90% of its nominal value, this pin goes active high. A pullup resistor should be connected between PG and OUT or (See Datasheet)"

## TPS60213DGSG4
designator U?
3.3 V, Step-Up Charge Pump Regulator, 50 mA, 1.6 to 3.6 V Input with 2-Cell Alkaline / Nixx Input, -40 to 85 degC, 10-pin SOP (DGS10), Green (RoHS & no Sb/Br); Manufacturer: Texas Instruments; PartNumber: TPS60213DGSG4; 2-Cell Alkaline/Nixx Input: TRUE; Iout(Max)(A): 0.05; Iq(Typ)(mA): 0.035; Preset Vout(V): 3.3; Switching Frequency(Max)(kHz): 400; Topology: Boost; Vin(Max)(V): 3.6; Vin(Min)(V): 1.8; Vout(Max)(V): 3.47; Vout(Min)(V): 3.17; DatasheetVersion: SLVS296; PackageVersion: 4073225-6/I; PackageReference: DGS10; PackageDescription: 10-Pin Plastic Small Outline, Body 3.00 x 3.00 mm, Pitch 0.50 mm; Supplier 1: Digi-Key; Supplier Part Number 1: TPS60213DGSG4-ND; Supplier 2: Newark; Supplier Part Number 2: 52M6115; Supplier 3: Mouser; Supplier Part Number 3: 595-TPS60213DGSG4; Eco-Plan: Green (RoHS & no Sb/Br); Mounting Technology: Surface Mount; Code_JEDEC: MO-153; ComponentLink1Description: Manufacturer URL; ComponentLink1URL: http://www.ti.com/; ComponentLink2Description: Datasheet; ComponentLink2URL: http://www.ti.com/general/docs/lit/getliterature.tsp?genericPartNumber=TPS60213&fileType=pdf; ComponentLink3Description: Package Specification; ComponentLink3URL: http://www.ti.com/litv/pdf/mpds373
footprint TI-DGS10_N (SOP, 10-Leads, Body 3x3mm, Pitch 0.5mm, IPC Medium Density)
footprint TI-DGS10_L (SOP, 10-Leads, Body 3x3mm, Pitch 0.5mm, IPC High Density)
footprint TI-DGS10_M (SOP, 10-Leads, Body 3x3mm, Pitch 0.5mm, IPC Low Density)
pins: 1 GND (power) "Ground", 2 GND (power) "Ground", 3 C1- "Negative terminal of the flying capacitor C1", 4 C1+ "Positive terminal of the flying capacitor C1", 5 OUT (power) "Regulated 3.3-V power output. Bypass OUT to GND with the output filter capacitor Co", 6 C2+ "Positive terminal of the flying capacitor C2", 7 IN (power) "Supply input. Bypass IN to GND with a capacitor of a minimum of 2.2 µF", 8 C2- "Negative terminal of the flying capacitor C2", 9 ~{SNOOZE} (in) "Three operating modes can be programmed with the S\N\O\O\Z\E\ pin. - S\N\O\O\Z\E\ = Low programs the device in the snooze mode, enabling ultralow operating current while still maintaining the output voltage to within 3.3 V (See Datasheet)", 10 PG (hiz) "Open-drain power-good detector output for TPS60211 and TPS60213. As soon as the voltage on OUT reaches about 90% of its nominal value, this pin goes active high. A pullup resistor should be connected between PG and OUT or (See Datasheet)"

## TPS60213DGSR
designator U?
3.3 V, Step-Up Charge Pump Regulator, 50 mA, 1.6 to 3.6 V Input with 2-Cell Alkaline / Nixx Input, -40 to 85 degC, 10-pin SOP (DGS10), Green (RoHS & no Sb/Br); Manufacturer: Texas Instruments; PartNumber: TPS60213DGSR; 2-Cell Alkaline/Nixx Input: TRUE; Iout(Max)(A): 0.05; Iq(Typ)(mA): 0.035; Preset Vout(V): 3.3; Switching Frequency(Max)(kHz): 400; Topology: Boost; Vin(Max)(V): 3.6; Vin(Min)(V): 1.8; Vout(Max)(V): 3.47; Vout(Min)(V): 3.17; DatasheetVersion: SLVS296; PackageVersion: 4073225-6/I; PackageReference: DGS10; PackageDescription: 10-Pin Plastic Small Outline, Body 3.00 x 3.00 mm, Pitch 0.50 mm; Supplier 1: Digi-Key; Supplier Part Number 1: TPS60213DGSR-ND; Supplier 2: Mouser; Supplier Part Number 2: 595-TPS60213DGSR; Eco-Plan: Green (RoHS & no Sb/Br); Mounting Technology: Surface Mount; Code_JEDEC: MO-153; ComponentLink1Description: Manufacturer URL; ComponentLink1URL: http://www.ti.com/; ComponentLink2Description: Datasheet; ComponentLink2URL: http://www.ti.com/general/docs/lit/getliterature.tsp?genericPartNumber=TPS60213&fileType=pdf; ComponentLink3Description: Package Specification; ComponentLink3URL: http://www.ti.com/litv/pdf/mpds373
footprint TI-DGS10_N (SOP, 10-Leads, Body 3x3mm, Pitch 0.5mm, IPC Medium Density)
footprint TI-DGS10_L (SOP, 10-Leads, Body 3x3mm, Pitch 0.5mm, IPC High Density)
footprint TI-DGS10_M (SOP, 10-Leads, Body 3x3mm, Pitch 0.5mm, IPC Low Density)
pins: 1 GND (power) "Ground", 2 GND (power) "Ground", 3 C1- "Negative terminal of the flying capacitor C1", 4 C1+ "Positive terminal of the flying capacitor C1", 5 OUT (power) "Regulated 3.3-V power output. Bypass OUT to GND with the output filter capacitor Co", 6 C2+ "Positive terminal of the flying capacitor C2", 7 IN (power) "Supply input. Bypass IN to GND with a capacitor of a minimum of 2.2 µF", 8 C2- "Negative terminal of the flying capacitor C2", 9 ~{SNOOZE} (in) "Three operating modes can be programmed with the S\N\O\O\Z\E\ pin. - S\N\O\O\Z\E\ = Low programs the device in the snooze mode, enabling ultralow operating current while still maintaining the output voltage to within 3.3 V (See Datasheet)", 10 PG (hiz) "Open-drain power-good detector output for TPS60211 and TPS60213. As soon as the voltage on OUT reaches about 90% of its nominal value, this pin goes active high. A pullup resistor should be connected between PG and OUT or (See Datasheet)"

## TPS60213DGSRG4
designator U?
3.3 V, Step-Up Charge Pump Regulator, 50 mA, 1.6 to 3.6 V Input with 2-Cell Alkaline / Nixx Input, -40 to 85 degC, 10-pin SOP (DGS10), Green (RoHS & no Sb/Br); Manufacturer: Texas Instruments; PartNumber: TPS60213DGSRG4; 2-Cell Alkaline/Nixx Input: TRUE; Iout(Max)(A): 0.05; Iq(Typ)(mA): 0.035; Preset Vout(V): 3.3; Switching Frequency(Max)(kHz): 400; Topology: Boost; Vin(Max)(V): 3.6; Vin(Min)(V): 1.8; Vout(Max)(V): 3.47; Vout(Min)(V): 3.17; DatasheetVersion: SLVS296; PackageVersion: 4073225-6/I; PackageReference: DGS10; PackageDescription: 10-Pin Plastic Small Outline, Body 3.00 x 3.00 mm, Pitch 0.50 mm; Supplier 1: Digi-Key; Supplier Part Number 1: TPS60213DGSRG4-ND; Supplier 2: Mouser; Supplier Part Number 2: 595-TPS60213DGSRG4; Eco-Plan: Green (RoHS & no Sb/Br); Mounting Technology: Surface Mount; Code_JEDEC: MO-153; ComponentLink1Description: Manufacturer URL; ComponentLink1URL: http://www.ti.com/; ComponentLink2Description: Datasheet; ComponentLink2URL: http://www.ti.com/general/docs/lit/getliterature.tsp?genericPartNumber=TPS60213&fileType=pdf; ComponentLink3Description: Package Specification; ComponentLink3URL: http://www.ti.com/litv/pdf/mpds373
footprint TI-DGS10_N (SOP, 10-Leads, Body 3x3mm, Pitch 0.5mm, IPC Medium Density)
footprint TI-DGS10_L (SOP, 10-Leads, Body 3x3mm, Pitch 0.5mm, IPC High Density)
footprint TI-DGS10_M (SOP, 10-Leads, Body 3x3mm, Pitch 0.5mm, IPC Low Density)
pins: 1 GND (power) "Ground", 2 GND (power) "Ground", 3 C1- "Negative terminal of the flying capacitor C1", 4 C1+ "Positive terminal of the flying capacitor C1", 5 OUT (power) "Regulated 3.3-V power output. Bypass OUT to GND with the output filter capacitor Co", 6 C2+ "Positive terminal of the flying capacitor C2", 7 IN (power) "Supply input. Bypass IN to GND with a capacitor of a minimum of 2.2 µF", 8 C2- "Negative terminal of the flying capacitor C2", 9 ~{SNOOZE} (in) "Three operating modes can be programmed with the S\N\O\O\Z\E\ pin. - S\N\O\O\Z\E\ = Low programs the device in the snooze mode, enabling ultralow operating current while still maintaining the output voltage to within 3.3 V (See Datasheet)", 10 PG (hiz) "Open-drain power-good detector output for TPS60211 and TPS60213. As soon as the voltage on OUT reaches about 90% of its nominal value, this pin goes active high. A pullup resistor should be connected between PG and OUT or (See Datasheet)"

## TPS60230RGTR
designator U?
5.5 V, Backlight, 125 mA, 2.7 to 6.5 V Input, -40 to 85 degC, 16-pin QFN (RGT16), Green (RoHS & no Sb/Br); Manufacturer: Texas Instruments; PartNumber: TPS60230RGTR; Iout(Max)(A): 0.125; Iq(Typ)(mA): 0.2; Preset Vout(V): 5.5; Switching Frequency(Max)(kHz): 1250; Topology: Boost; Vin(Max)(V): 6.5; Vin(Min)(V): 2.7; DatasheetVersion: SLVS516A; PackageVersion: 4203495/H; PackageReference: RGT16-1450X1450TP; PackageDescription: 16-Pin Plastic Flat Pack, Body 3 x 3 mm, Pitch 0.5 mm; Supplier 1: Digi-Key; Supplier Part Number 1: 296-27003-2-ND; Supplier 2: Digi-Key; Supplier Part Number 2: 296-27003-1-ND; Supplier 3: Digi-Key; Supplier Part Number 3: 296-27003-6-ND; Supplier 4: Newark; Supplier Part Number 4: 21J9225; Supplier 5: Mouser; Supplier Part Number 5: 595-TPS60230RGTR; Eco-Plan: Green (RoHS & no Sb/Br); Mounting Technology: Surface Mount; Code_JEDEC: MO-220; ComponentLink1Description: Manufacturer URL; ComponentLink1URL: http://www.ti.com/; ComponentLink2Description: Datasheet; ComponentLink2URL: http://www.ti.com/general/docs/lit/getliterature.tsp?genericPartNumber=TPS60230&fileType=pdf; ComponentLink3Description: Package Specification; ComponentLink3URL: http://www.ti.com/litv/pdf/mpqf119g
footprint TI-RGT16-1450X1450TP_V (QFN, 16-Leads, Body 3x3mm, Pitch 0.5mm, Thermal Pad 1.45x1.45mm)
pins: 1 ISET (in) "Connect a resistor between this pin and GND to set the maximum current through the LEDs.", 2 D5 (in) "Current sink input. Connect the cathode of the white LEDs to these inputs.", 3 D4 (in) "Current sink input. Connect the cathode of the white LEDs to these inputs.", 4 D3 (in) "Current sink input. Connect the cathode of the white LEDs to these inputs.", 5 D2 (in) "Current sink input. Connect the cathode of the white LEDs to these inputs.", 6 D1 (in) "Current sink input. Connect the cathode of the white LEDs to these inputs.", 7 PGND (power) "Power ground, connect with analog ground (GND).", 8 VOUT (power) "Connect the output capacitor and the anode of the LEDs to this pin.", 9 C2+ "Connect to the flying capacitor C2", 10 C1+ "Connect to the flying capacitor C1", 11 C1- "Connect to the flying capacitor C1", 12 C2- "Connect to the flying capacitor C2", 13 VIN (power) "Supply voltage input.", 14 GND (power) "Analog ground", 15 EN1 (in) "Enable input. A logic high enables the converter, logic low forces the device into shutdown mode reducing the supply current to less than 1 uA if EN2 is tied to GND.", 16 EN2 (in) "An applied PWM signal reduces the LED current as a function of the duty cycle of the PWM signal. EN1 and EN2 can be tied together for PWM dimming between 0 mA and the maximum set with ISET. EN1 and EN2 can also be used for (See Datasheet)", 17 EP (power) "Connect with PGND and GND"

## TPS60230RGTRG4
designator U?
5.5 V, Backlight, 125 mA, 2.7 to 6.5 V Input, -40 to 85 degC, 16-pin QFN (RGT16), Green (RoHS & no Sb/Br); Manufacturer: Texas Instruments; PartNumber: TPS60230RGTRG4; Iout(Max)(A): 0.125; Iq(Typ)(mA): 0.2; Preset Vout(V): 5.5; Switching Frequency(Max)(kHz): 1250; Topology: Boost; Vin(Max)(V): 6.5; Vin(Min)(V): 2.7; DatasheetVersion: SLVS516A; PackageVersion: 4203495/H; PackageReference: RGT16-1450X1450TP; PackageDescription: 16-Pin Plastic Flat Pack, Body 3 x 3 mm, Pitch 0.5 mm; Supplier 1: Digi-Key; Supplier Part Number 1: TPS60230RGTRG4-ND; Supplier 2: Mouser; Supplier Part Number 2: 595-TPS60230RGTRG4; Eco-Plan: Green (RoHS & no Sb/Br); Mounting Technology: Surface Mount; Code_JEDEC: MO-220; ComponentLink1Description: Manufacturer URL; ComponentLink1URL: http://www.ti.com/; ComponentLink2Description: Datasheet; ComponentLink2URL: http://www.ti.com/general/docs/lit/getliterature.tsp?genericPartNumber=TPS60230&fileType=pdf; ComponentLink3Description: Package Specification; ComponentLink3URL: http://www.ti.com/litv/pdf/mpqf119g
footprint TI-RGT16-1450X1450TP_V (QFN, 16-Leads, Body 3x3mm, Pitch 0.5mm, Thermal Pad 1.45x1.45mm)
pins: 1 ISET (in) "Connect a resistor between this pin and GND to set the maximum current through the LEDs.", 2 D5 (in) "Current sink input. Connect the cathode of the white LEDs to these inputs.", 3 D4 (in) "Current sink input. Connect the cathode of the white LEDs to these inputs.", 4 D3 (in) "Current sink input. Connect the cathode of the white LEDs to these inputs.", 5 D2 (in) "Current sink input. Connect the cathode of the white LEDs to these inputs.", 6 D1 (in) "Current sink input. Connect the cathode of the white LEDs to these inputs.", 7 PGND (power) "Power ground, connect with analog ground (GND).", 8 VOUT (power) "Connect the output capacitor and the anode of the LEDs to this pin.", 9 C2+ "Connect to the flying capacitor C2", 10 C1+ "Connect to the flying capacitor C1", 11 C1- "Connect to the flying capacitor C1", 12 C2- "Connect to the flying capacitor C2", 13 VIN (power) "Supply voltage input.", 14 GND (power) "Analog ground", 15 EN1 (in) "Enable input. A logic high enables the converter, logic low forces the device into shutdown mode reducing the supply current to less than 1 uA if EN2 is tied to GND.", 16 EN2 (in) "An applied PWM signal reduces the LED current as a function of the duty cycle of the PWM signal. EN1 and EN2 can be tied together for PWM dimming between 0 mA and the maximum set with ISET. EN1 and EN2 can also be used for (See Datasheet)", 17 EP (power) "Connect with PGND and GND"